# Altium schematic symbol library Brownbear_Audio.SchLib: 1 symbol
Pins are listed as number, name and electrical type; pins without a type are passive.

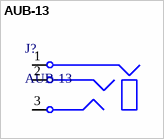
[diagram p0: symbol AUB-13]

## AUB-13
designator J?
Audio jack 3.5mm stereo; Supplier: http://www.compel.ru/infosheet/BM/AUB-13/
footprint AUB-13 (Audio jack 3.5mm stereo)
pins: 1, 2, 3